# Altium integrated library SparkFun-Connectors.Library.IntLib: 425 symbols (part 12 of 12)
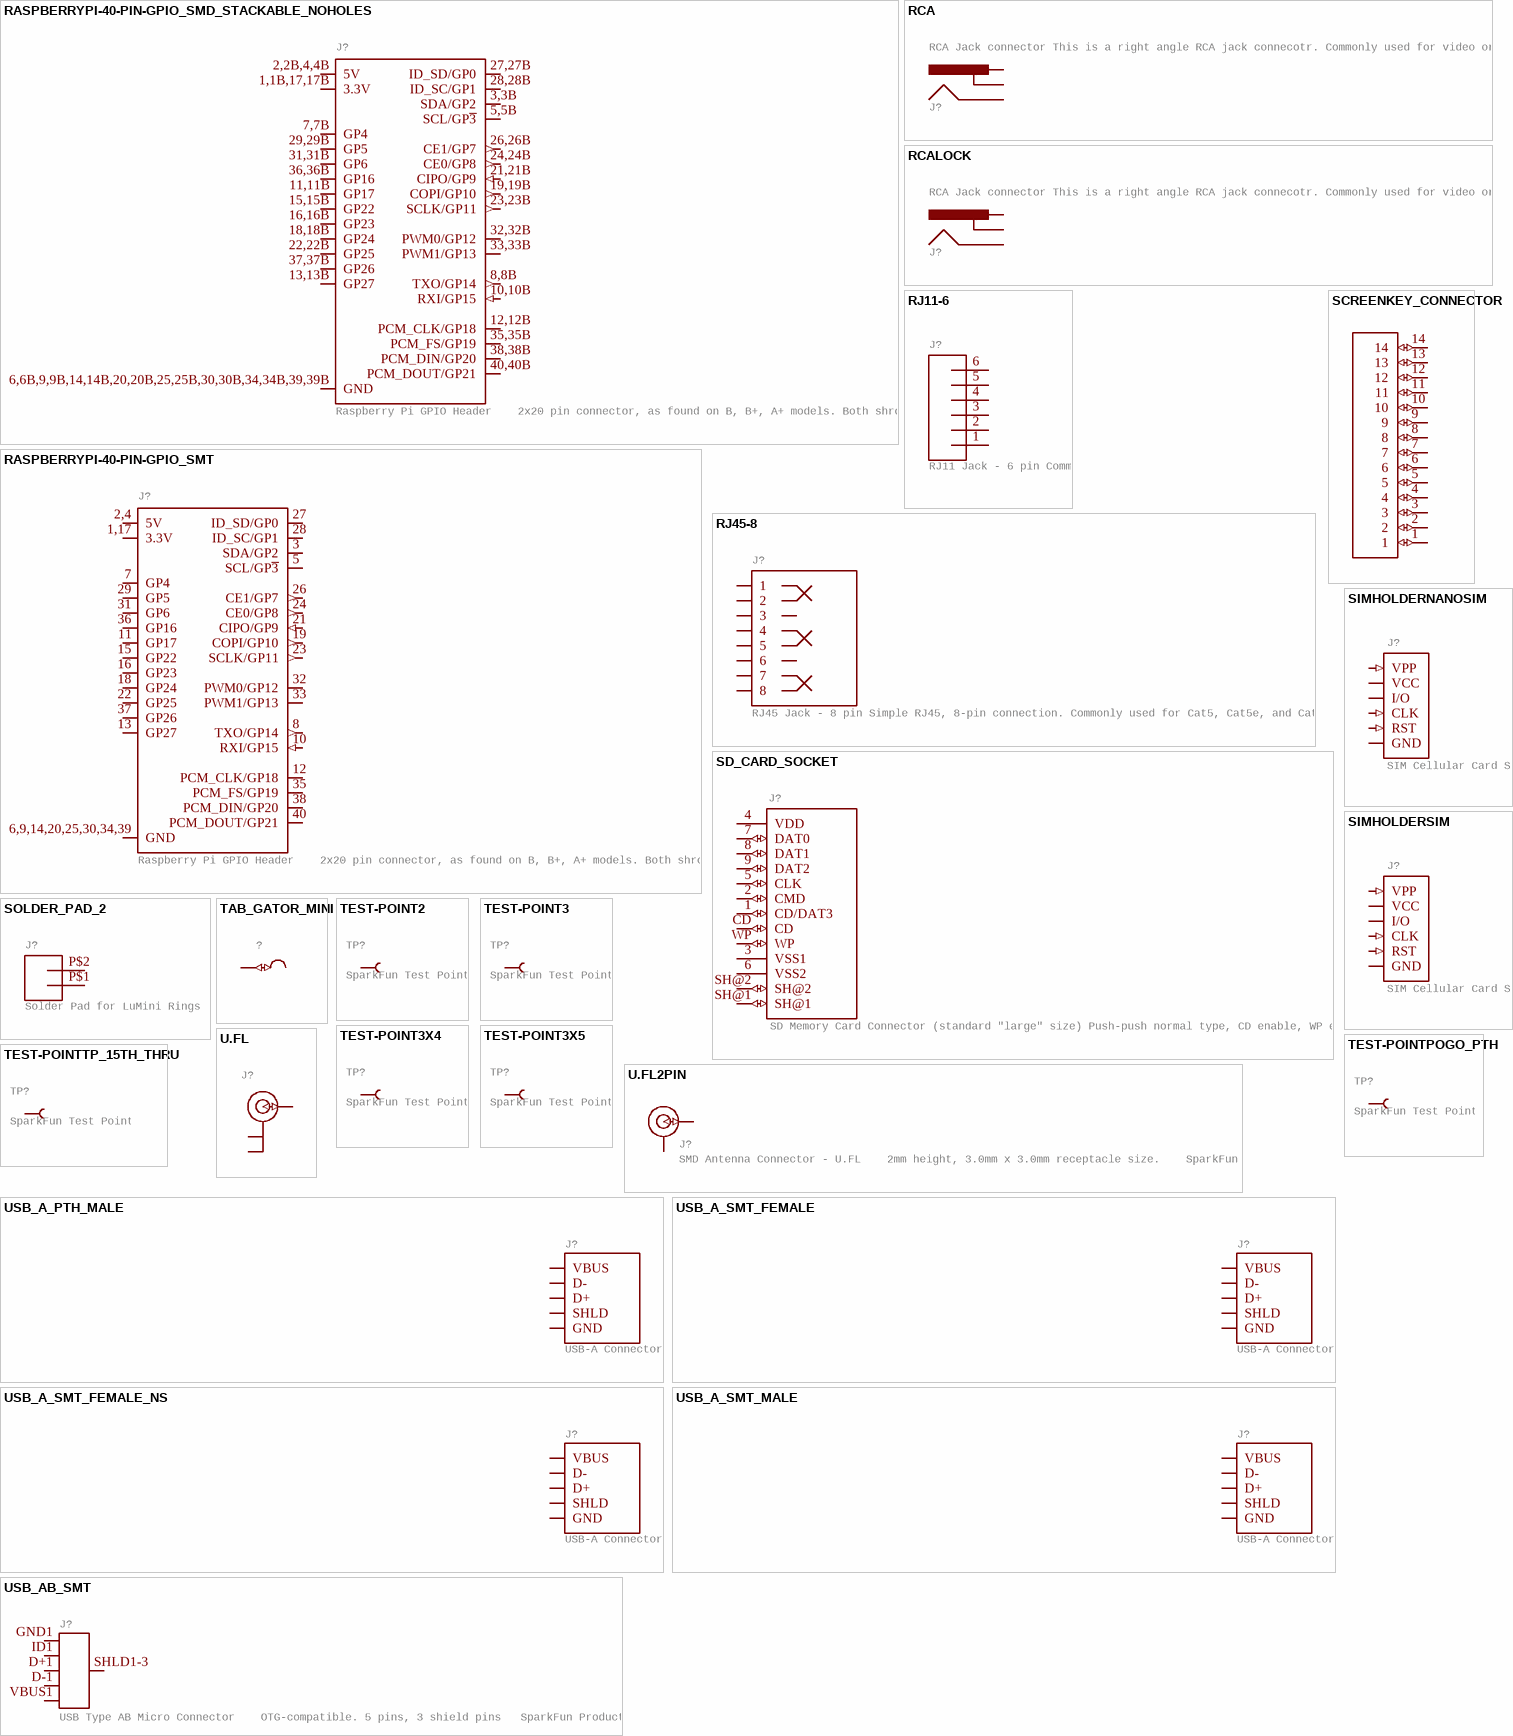
[diagram p30: symbols RASPBERRYPI-40-PIN-GPIO_SMD_STACKABLE_NOHOLES to USB_AB_SMT]

## SD_CARD_SOCKET
designator J?, comment SD Memory Card Connector (standard "large" size) Push-push normal type, CD enable, WP enable.    Here is the connector we sell at SparkFun: SD/MMC Socket (PRT-12769)  Datasheet      It is used on these SparkFun products: SparkFun SD/MMC Card Breakout (BOB-12941)  SD Sniffer (TOL-11468)
GateName_1: G$1; SymbolName_1: SDCARD-1; DeviceSetName: SD_CARD_SOCKET; PROD_ID: CONN-11976; LibraryName: SparkFun-Connectors; Package: SD; SF_ID: PRT-12769
footprint SD
pins: 1 CD/DAT3 (io), 2 CMD (io), 3 VSS1 (power), 4 VDD (power), 5 CLK (io), 6 VSS2 (power), 7 DAT0 (io), 8 DAT1 (io), 9 DAT2 (io), CD (io), SH@1 (io), SH@2 (io), WP (io)

## SIMHOLDERNANOSIM
designator J?, comment SIM Cellular Card Socket    SMT 6 pin standard connection.    SparkFun Products: SIM Socket  SparkFun Cellular Shield - MG2639  SparkFun SIM Card Socket Breakout
GateName_1: J1; SymbolName_1: SIMHOLDER; DeviceName: NANOSIM; PROD_ID: CONN-14097; LibraryName: SparkFun-Connectors; DeviceSetName: SIMHOLDER; Package: NANO_SIM_WURTH_693043020611
footprint NANO_SIM_WURTH_693043020611
pins: C1 VCC (power), C2 RST (in), C3 CLK (in), C5 GND (power), C6 VPP (in), C7 I/O (io)

## SIMHOLDERSIM
designator J?, comment SIM Cellular Card Socket    SMT 6 pin standard connection.    SparkFun Products: SIM Socket  SparkFun Cellular Shield - MG2639  SparkFun SIM Card Socket Breakout
GateName_1: J1; SymbolName_1: SIMHOLDER; PROD_ID: CONN-08536; SF_ID: PRT-00548; DeviceName: SIM; LibraryName: SparkFun-Connectors; DeviceSetName: SIMHOLDER; Package: SIMHOLDER
footprint SIMHOLDER
pins: C1 VCC (power), C2 RST (in), C3 CLK (in), C5 GND (power), C6 VPP (in), C7 I/O (io)

## SOLDER_PAD_2
designator J?, comment Solder Pad for LuMini Rings
GateName_1: G$1; SymbolName_1: CONN_02; DeviceSetName: SOLDER_PAD_2; LibraryName: SparkFun-Connectors; Package: SOLDER_PAD_2
footprint SOLDER_PAD_2
pins: P$1 1, P$2 2

## TAB_GATOR_MINI
designator ?
GateName_1: G$1; SymbolName_1: TAB_MICRO_BIT_GATOR_CLIP; DeviceSetName: TAB_GATOR_MINI; LibraryName: SparkFun-Connectors; Package: TAB_GATOR_MINI
footprint TAB_GATOR_MINI
pins: P1 P$1 (io)

## TEST-POINT2
designator TP?, comment SparkFun Test Points    Bare copper test points for troubleshooting or In-Circuit-Testing. These are used by our Production team for verifying production board runs using pogo-pins on test beds.   SparkFun Products: SparkFun LSM9DS1 Breakout  SparkFun PSOC  SparkFun Load Cell Amplifier
GateName_1: G$1; SymbolName_1: TEST-POINT; DeviceName: 2; LibraryName: SparkFun-Connectors; DeviceSetName: TEST-POINT; Package: PAD.02X.02
footprint PAD.02X.02
pins: 1 (io)

## TEST-POINT3
designator TP?, comment SparkFun Test Points    Bare copper test points for troubleshooting or In-Circuit-Testing. These are used by our Production team for verifying production board runs using pogo-pins on test beds.   SparkFun Products: SparkFun LSM9DS1 Breakout  SparkFun PSOC  SparkFun Load Cell Amplifier
GateName_1: G$1; SymbolName_1: TEST-POINT; DeviceName: 3; LibraryName: SparkFun-Connectors; DeviceSetName: TEST-POINT; Package: PAD.03X.03
footprint PAD.03X.03
pins: 1 (io)

## TEST-POINT3X4
designator TP?, comment SparkFun Test Points    Bare copper test points for troubleshooting or In-Circuit-Testing. These are used by our Production team for verifying production board runs using pogo-pins on test beds.   SparkFun Products: SparkFun LSM9DS1 Breakout  SparkFun PSOC  SparkFun Load Cell Amplifier
GateName_1: G$1; SymbolName_1: TEST-POINT; DeviceName: 3X4; LibraryName: SparkFun-Connectors; DeviceSetName: TEST-POINT; Package: PAD.03X.04
footprint PAD.03X.04
pins: 1 (io)

## TEST-POINT3X5
designator TP?, comment SparkFun Test Points    Bare copper test points for troubleshooting or In-Circuit-Testing. These are used by our Production team for verifying production board runs using pogo-pins on test beds.   SparkFun Products: SparkFun LSM9DS1 Breakout  SparkFun PSOC  SparkFun Load Cell Amplifier
GateName_1: G$1; SymbolName_1: TEST-POINT; DeviceName: 3X5; LibraryName: SparkFun-Connectors; DeviceSetName: TEST-POINT; Package: PAD.03X.05
footprint PAD.03X.05
pins: 1 (io)

## TEST-POINTPOGO_PTH
designator TP?, comment SparkFun Test Points    Bare copper test points for troubleshooting or In-Circuit-Testing. These are used by our Production team for verifying production board runs using pogo-pins on test beds.   SparkFun Products: SparkFun LSM9DS1 Breakout  SparkFun PSOC  SparkFun Load Cell Amplifier
GateName_1: G$1; SymbolName_1: TEST-POINT; DeviceName: POGO_PTH; LibraryName: SparkFun-Connectors; DeviceSetName: TEST-POINT; Package: 1X01_NO_SILK
footprint 1X01_NO_SILK
pins: 1 (io)

## TEST-POINTTP_15TH_THRU
designator TP?, comment SparkFun Test Points    Bare copper test points for troubleshooting or In-Circuit-Testing. These are used by our Production team for verifying production board runs using pogo-pins on test beds.   SparkFun Products: SparkFun LSM9DS1 Breakout  SparkFun PSOC  SparkFun Load Cell Amplifier
GateName_1: G$1; SymbolName_1: TEST-POINT; DeviceName: TP_15TH_THRU; LibraryName: SparkFun-Connectors; DeviceSetName: TEST-POINT; Package: TP_15TH
footprint TP_15TH
pins: 1 (io)

## U.FL
designator J?, comment SMD Antenna Connector - U.FL    2mm height, 3.0mm x 3.0mm receptacle size.    SparkFun Products: SparkFun WiFi Shield - ESP8266  SparkFun ESP8266 Thing  SparkFun MiniGen - Pro Mini Signal Generator Shield  (value not drawn)
GateName_1: G$1; PROD_ID: CONN-09193; SF_ID: WRL-09144; SymbolName_1: U.FL; LibraryName: SparkFun-Connectors; DeviceSetName: U.FL; Package: U.FL
footprint U.FL
pins: 1 GND@0 (io), 2 GND@1 (io), FEED SIGNAL (io)

## U.FL2PIN
designator J?, comment SMD Antenna Connector - U.FL    2mm height, 3.0mm x 3.0mm receptacle size.    SparkFun Products: SparkFun WiFi Shield - ESP8266  SparkFun ESP8266 Thing  SparkFun MiniGen - Pro Mini Signal Generator Shield
GateName_1: G$1; SymbolName_1: U.FL-1; DeviceSetName: U.FL2PIN; PROD_ID: CONN-09193; SF_ID: WRL-09144; LibraryName: SparkFun-Connectors; Package: U.FL
footprint U.FL
pins: 1,2 GND (io), FEED SIGNAL (io)

## USB_A_PTH_MALE
designator J?, comment USB-A Connector    Male and female variants, as well as PTH and SMT variants   SparkFun Products:  SparkFun XBee Explorer Dongle PTH Male  SparkFun MicroView-USB Programmer SMT Male  SparkFun USB Type A Female Breakout SMT Female
GateName_1: G$1; DeviceName: _PTH_MALE; DeviceSetName: USB_A; PROD_ID: CONN-08367; SF_ID: PRT-00437; SymbolName_1: USB; LibraryName: SparkFun-Connectors; Package: USB-A-H
footprint USB-A-H
pins: D+ (io), D- (io), GND (power), SHLD1,2 SHLD (io), VBUS (power)

## USB_A_SMT_FEMALE
designator J?, comment USB-A Connector    Male and female variants, as well as PTH and SMT variants   SparkFun Products:  SparkFun XBee Explorer Dongle PTH Male  SparkFun MicroView-USB Programmer SMT Male  SparkFun USB Type A Female Breakout SMT Female
GateName_1: G$1; DeviceName: _SMT_FEMALE; DeviceSetName: USB_A; PROD_ID: CONN-09520; SF_ID: PRT-09011; SymbolName_1: USB; LibraryName: SparkFun-Connectors; Package: USB-A-S-SILK-FEMALE
footprint USB-A-S-SILK-FEMALE
pins: D+ (io), D- (io), GND (power), SHLD1,2 SHLD (io), VBUS (power)

## USB_A_SMT_FEMALE_NS
designator J?, comment USB-A Connector    Male and female variants, as well as PTH and SMT variants   SparkFun Products:  SparkFun XBee Explorer Dongle PTH Male  SparkFun MicroView-USB Programmer SMT Male  SparkFun USB Type A Female Breakout SMT Female
GateName_1: G$1; DeviceName: _SMT_FEMALE_NS; DeviceSetName: USB_A; PROD_ID: CONN-09520; SF_ID: PRT-09011; SymbolName_1: USB; LibraryName: SparkFun-Connectors; Package: USB-A-S-NOSILK-FEMALE
footprint USB-A-S-NOSILK-FEMALE
pins: D+ (io), D- (io), GND (power), SHLD1,2 SHLD (io), VBUS (power)

## USB_A_SMT_MALE
designator J?, comment USB-A Connector    Male and female variants, as well as PTH and SMT variants   SparkFun Products:  SparkFun XBee Explorer Dongle PTH Male  SparkFun MicroView-USB Programmer SMT Male  SparkFun USB Type A Female Breakout SMT Female
GateName_1: G$1; DeviceName: _SMT_MALE; DeviceSetName: USB_A; PROD_ID: CONN-11499; SymbolName_1: USB; LibraryName: SparkFun-Connectors; Package: USB-A-SMT-MALE
footprint USB-A-SMT-MALE
pins: D+1 D+ (io), D-1 D- (io), GND1 GND (power), SHLD1,2 SHLD (io), VBUS1 VBUS (power)

## USB_AB_SMT
designator J?, comment USB Type AB Micro Connector    OTG-compatible. 5 pins, 3 shield pins   SparkFun Products:  IOIO-OTG  SparkFun SAMD21 Mini Breakout
GateName_1: G$1; SymbolName_1: USB_AB; DeviceName: _SMT; PROD_ID: CONN-11794; LibraryName: SparkFun-Connectors; DeviceSetName: USB_AB; Package: USB-AB-MICRO-SMD
footprint USB-AB-MICRO-SMD
pins: D+1 D+ (io), D-1 D- (io), GND1 GND (power), ID1 USBID (io), SHLD1-3 SHIELD (io), VBUS1 VBUS (power)

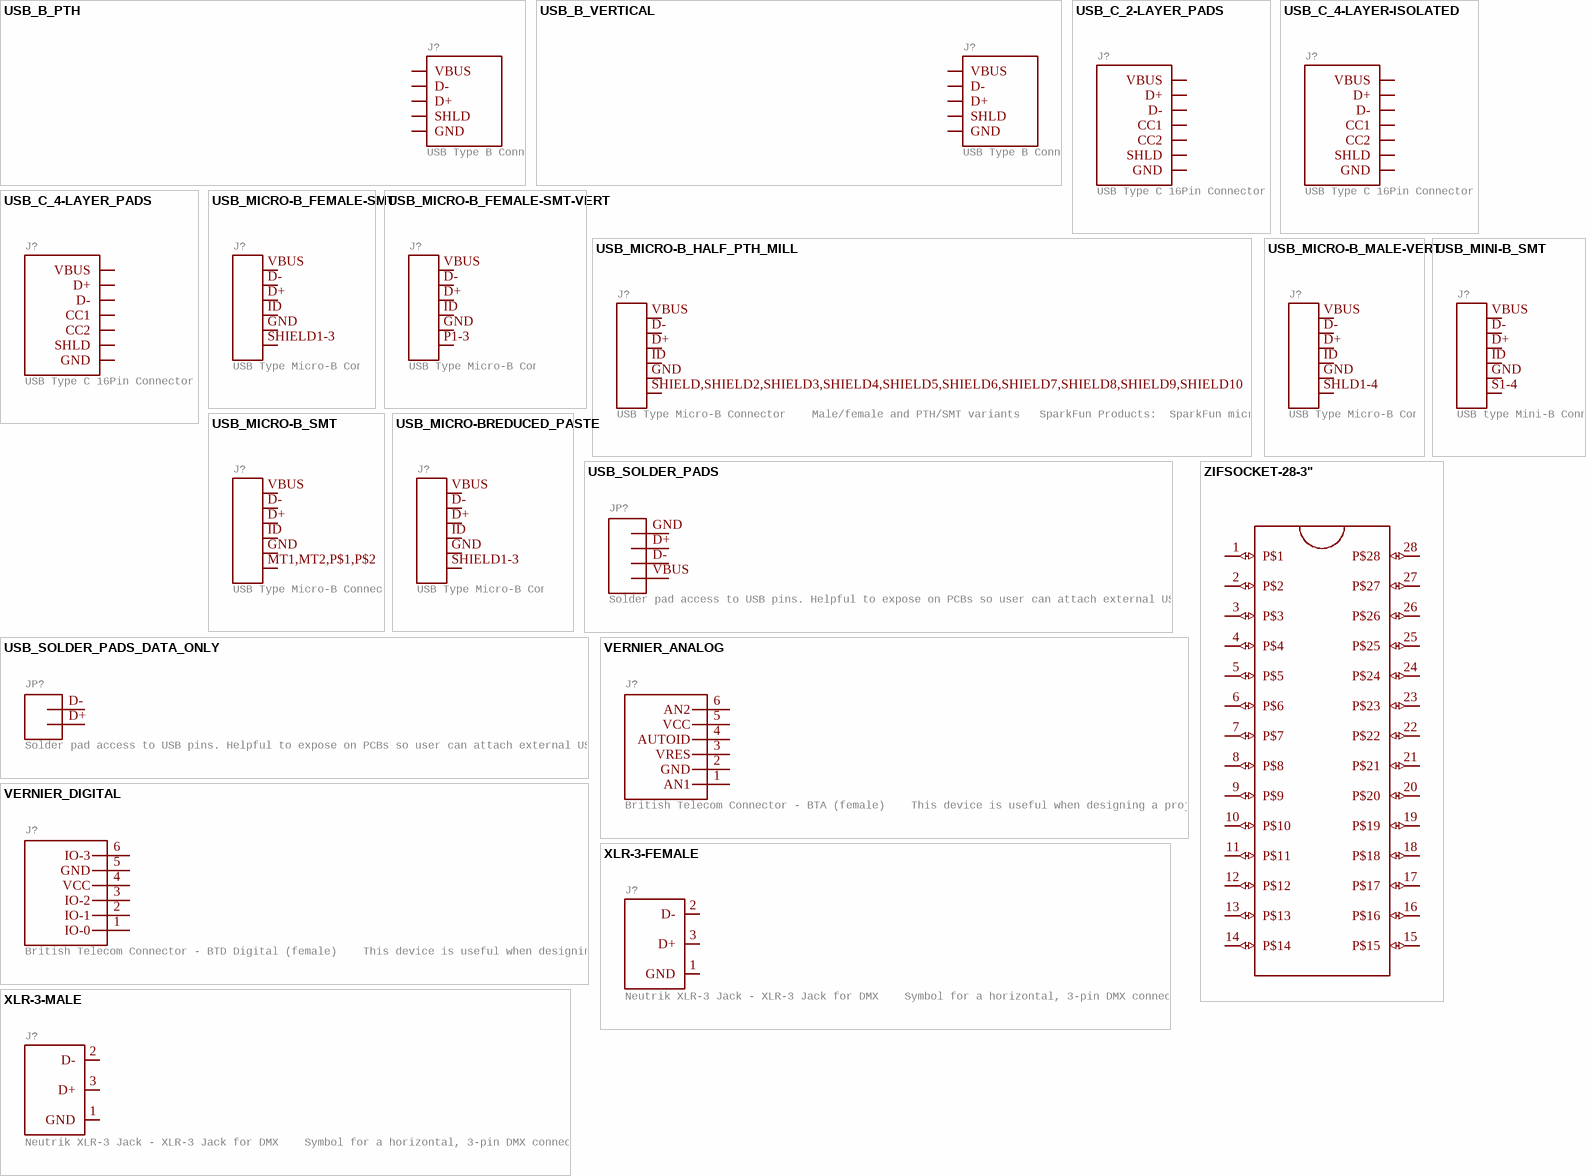
[diagram p19: symbols USB_B_PTH to ZIFSOCKET-28-3"]

## USB_B_PTH
designator J?, comment USB Type B Connector       SparkFun Products:  SparkFun Stepoko PTH
GateName_1: G$1; DeviceName: _PTH; DeviceSetName: USB_B; PROD_ID: CONN-08278; SF_ID: PRT-00139; SymbolName_1: USB; LibraryName: SparkFun-Connectors; Package: USB-B-PTH
footprint USB-B-PTH
pins: D+ (io), D- (io), GND (power), SHLD1,2 SHLD (io), VBUS (power)

## USB_B_VERTICAL
designator J?, comment USB Type B Connector       SparkFun Products:  SparkFun Stepoko PTH
GateName_1: G$1; DeviceName: _VERTICAL; DeviceSetName: USB_B; SymbolName_1: USB; LibraryName: SparkFun-Connectors; Package: USB_B_VERTICAL_PTH
footprint USB_B_VERTICAL_PTH
pins: 1 VBUS (power), 2 D- (io), 3 D+ (io), 4 GND (power), 5,6 SHLD (io)

## USB_C_2-LAYER_PADS
designator J?, comment USB Type C 16Pin Connector Super Speed pins not available on the 16-pin purely SMD connector so this part is best for USB 2.0 implementations. D1 and D2 are tied together enabling D+/- no matter which way the cable is plugged into the connector. The two channel configuration pins (CC1/2) are exposed. These are normally connected to ground via 5.1k resistors but can be reconfigured for high current/high power applications.  **4-LAYER BOARD WARNING!!** If designing 4-layer board, make sure to select the variant _4-LAYER-ISOLATED. The linked footprint (USB-C-16-4LAYER-ISOLATED) includes some very necessary cutout polygons in the inner layers (2 and 15). This prevents the PTH mounting shield legs on the USB connector from electrically connecting any other polygons on the inner layers (usually VCC and GND).
GateName_1: J1; SymbolName_1: USB-C-MINIMUM; DeviceName: _2-LAYER_PADS; DeviceSetName: USB_C; PROD_ID: CONN-14122; LibraryName: SparkFun-Connectors; Package: USB-C-16P-2LAYER-PADS
footprint USB-C-16P-2LAYER-PADS
pins: A5 CC1 (io), A6,B6 D+ (io), A7,B7 D- (io), B5 CC2 (io), GND,GND2 GND (io), SHLD1-4 SHLD (io), VBUS1,2 VBUS (io)

## USB_C_4-LAYER-ISOLATED
designator J?, comment USB Type C 16Pin Connector Super Speed pins not available on the 16-pin purely SMD connector so this part is best for USB 2.0 implementations. D1 and D2 are tied together enabling D+/- no matter which way the cable is plugged into the connector. The two channel configuration pins (CC1/2) are exposed. These are normally connected to ground via 5.1k resistors but can be reconfigured for high current/high power applications.  **4-LAYER BOARD WARNING!!** If designing 4-layer board, make sure to select the variant _4-LAYER-ISOLATED. The linked footprint (USB-C-16-4LAYER-ISOLATED) includes some very necessary cutout polygons in the inner layers (2 and 15). This prevents the PTH mounting shield legs on the USB connector from electrically connecting any other polygons on the inner layers (usually VCC and GND).
GateName_1: J1; SymbolName_1: USB-C-MINIMUM; DeviceSetName: USB_C; PROD_ID: CONN-14122; DeviceName: _4-LAYER-ISOLATED; LibraryName: SparkFun-Connectors; Package: USB-C-16P-4LAYER-ISOLATED
footprint USB-C-16P-4LAYER-ISOLATED
pins: A5 CC1 (io), A6,B6 D+ (io), A7,B7 D- (io), B5 CC2 (io), GND,GND2 GND (io), SHLD1-8 SHLD (io), VBUS1,2 VBUS (io)

## USB_C_4-LAYER_PADS
designator J?, comment USB Type C 16Pin Connector Super Speed pins not available on the 16-pin purely SMD connector so this part is best for USB 2.0 implementations. D1 and D2 are tied together enabling D+/- no matter which way the cable is plugged into the connector. The two channel configuration pins (CC1/2) are exposed. These are normally connected to ground via 5.1k resistors but can be reconfigured for high current/high power applications.  **4-LAYER BOARD WARNING!!** If designing 4-layer board, make sure to select the variant _4-LAYER-ISOLATED. The linked footprint (USB-C-16-4LAYER-ISOLATED) includes some very necessary cutout polygons in the inner layers (2 and 15). This prevents the PTH mounting shield legs on the USB connector from electrically connecting any other polygons on the inner layers (usually VCC and GND).
GateName_1: J1; SymbolName_1: USB-C-MINIMUM; DeviceName: _4-LAYER_PADS; DeviceSetName: USB_C; PROD_ID: CONN-14122; LibraryName: SparkFun-Connectors; Package: USB-C-16P_4LAYER-PADS
footprint USB-C-16P_4LAYER-PADS
pins: A5 CC1 (io), A6,B6 D+ (io), A7,B7 D- (io), B5 CC2 (io), GND,GND2 GND (io), SHLD1-4 SHLD (io), VBUS1,2 VBUS (io)

## USB_MICRO-B_FEMALE-SMT
designator J?, comment USB Type Micro-B Connector    Male/female and PTH/SMT variants   SparkFun Products:  SparkFun microB USB Breakout  SparkFun USB microB Plug Breakout  SparkFun ESP8266 Thing
GateName_1: J1; SymbolName_1: USB-5PIN; DeviceName: _FEMALE-SMT; DeviceSetName: USB_MICRO-B; PROD_ID: CONN-11752; LibraryName: SparkFun-Connectors; Package: USB-B-MICRO-SMD
footprint USB-B-MICRO-SMD
pins: D+ (io), D- (io), GND (power), ID (io), SHIELD1-3 SHIELD (io), VBUS (power)

## USB_MICRO-B_FEMALE-SMT-VERT
designator J?, comment USB Type Micro-B Connector    Male/female and PTH/SMT variants   SparkFun Products:  SparkFun microB USB Breakout  SparkFun USB microB Plug Breakout  SparkFun ESP8266 Thing
GateName_1: J1; SymbolName_1: USB-5PIN; DeviceName: _FEMALE-SMT-VERT; DeviceSetName: USB_MICRO-B; PROD_ID: CONN-13534; LibraryName: SparkFun-Connectors; Package: USB-B-MICRO-SMD_VERT
footprint USB-B-MICRO-SMD_VERT
pins: D+ (io), D- (io), GND (power), ID (io), P1-3 SHIELD (io), VBUS (power)

## USB_MICRO-B_HALF_PTH_MILL
designator J?, comment USB Type Micro-B Connector    Male/female and PTH/SMT variants   SparkFun Products:  SparkFun microB USB Breakout  SparkFun USB microB Plug Breakout  SparkFun ESP8266 Thing
GateName_1: J1; SymbolName_1: USB-5PIN; DeviceName: _HALF_PTH_MILL; DeviceSetName: USB_MICRO-B; PROD_ID: CONN-13711; LibraryName: SparkFun-Connectors; Package: USB-MICROB-PTH-MILL
footprint USB-MICROB-PTH-MILL
pins: D+ (io), D- (io), GND (power), ID (io), SHIELD,SHIELD2,SHIELD3,SHIELD4,SHIELD5,SHIELD6,SHIELD7,SHIELD8,SHIELD9,SHIELD10 SHIELD (io), VBUS (power)

## USB_MICRO-B_MALE-VERT
designator J?, comment USB Type Micro-B Connector    Male/female and PTH/SMT variants   SparkFun Products:  SparkFun microB USB Breakout  SparkFun USB microB Plug Breakout  SparkFun ESP8266 Thing
GateName_1: J1; SymbolName_1: USB-5PIN; DeviceName: _MALE-VERT; DeviceSetName: USB_MICRO-B; PROD_ID: CONN-09900; LibraryName: SparkFun-Connectors; Package: USB_MICROB_VERTICAL
footprint USB_MICROB_VERTICAL
pins: D+ (io), D- (io), GND (power), ID (io), SHLD1-4 SHIELD (io), VBUS (power)

## USB_MICRO-B_SMT
designator J?, comment USB Type Micro-B Connector    Male/female and PTH/SMT variants   SparkFun Products:  SparkFun microB USB Breakout  SparkFun USB microB Plug Breakout  SparkFun ESP8266 Thing
GateName_1: J1; SymbolName_1: USB-5PIN; DeviceName: _SMT; DeviceSetName: USB_MICRO-B; PROD_ID: CONN-09505; SF_ID: PRT-08533; LibraryName: SparkFun-Connectors; Package: USB-MICROB
footprint USB-MICROB
pins: D+ (io), D- (io), GND (power), ID (io), MT1,MT2,P$1,P$2 SHIELD (io), VBUS (power)

## USB_MICRO-BREDUCED_PASTE
designator J?, comment USB Type Micro-B Connector    Male/female and PTH/SMT variants   SparkFun Products:  SparkFun microB USB Breakout  SparkFun USB microB Plug Breakout  SparkFun ESP8266 Thing
GateName_1: J1; SymbolName_1: USB-5PIN; DeviceName: REDUCED_PASTE; DeviceSetName: USB_MICRO-B; PROD_ID: CONN-11752; LibraryName: SparkFun-Connectors; Package: USB-B-MICRO-SMD_RED_PASTE
footprint USB-B-MICRO-SMD_RED_PASTE
pins: D+ (io), D- (io), GND (power), ID (io), SHIELD1-3 SHIELD (io), VBUS (power)

## USB_MINI-B_SMT
designator J?, comment USB type Mini-B Connector    Breaks out 5th pin, and includes shield pins if needed.   SparkFun Products:    SparkFun Redboard
GateName_1: G$1; SymbolName_1: USB-5PIN; DeviceName: _SMT; DeviceSetName: USB_MINI-B; PROD_ID: CONN-08193; SF_ID: PRT-00587; LibraryName: SparkFun-Connectors; Package: USB-MINIB
footprint USB-MINIB
pins: D+ (io), D- (io), GND (power), ID (io), S1-4 SHIELD (io), VBUS (power)

## USB_SOLDER_PADS
designator JP?, comment Solder pad access to USB pins. Helpful to expose on PCBs so user can attach external USB connector if necessary.
GateName_1: JP1; SymbolName_1: CONN_04; DeviceSetName: USB_SOLDER_PADS; LibraryName: SparkFun-Connectors; Package: USB-SOLDER-PADS
footprint USB-SOLDER-PADS
pins: D+ 3, D- 2, GND 4, VBUS 1

## USB_SOLDER_PADS_DATA_ONLY
designator JP?, comment Solder pad access to USB pins. Helpful to expose on PCBs so user can attach external USB connector if necessary.
GateName_1: JP1; SymbolName_1: CONN_02; DeviceSetName: USB_SOLDER_PADS_DATA_ONLY; LibraryName: SparkFun-Connectors; Package: USB-SOLDER-PADS-DATA_ONLY
footprint USB-SOLDER-PADS-DATA_ONLY
pins: D+ 1, D- 2

## VERNIER_ANALOG
designator J?, comment British Telecom Connector - BTA (female)    This device is useful when designing a project that uses any of the analog sensors in the Vernier ecosystem (sensors and/or controllers)   SparkFun Products:  SparkFun Vernier Interface Shield (DEV-12858)  British Telecom Connector - BTA (female)
GateName_1: G$1; SymbolName_1: VERNIER_ANALOG; PROD_ID: CONN-11653; SF_ID: PRT-12753; LibraryName: SparkFun-Connectors; DeviceSetName: VERNIER_ANALOG; Package: BTA
footprint BTA
pins: 1 AN1, 2 GND, 3 VRES, 4 AUTOID, 5 VCC, 6 AN2

## VERNIER_DIGITAL
designator J?, comment British Telecom Connector - BTD Digital (female)    This device is useful when designing a project that uses any of the analog sensors in the Vernier ecosystem (sensors and/or controllers)   SparkFun Products:  SparkFun Vernier Interface Shield (DEV-12858)  British Telecom Connector - BTD (female)        More information about the Vernier ecosystem can be found here:  http://www.vernier.com/engineering/arduino/
GateName_1: G$1; SymbolName_1: VERNIER_DIGITAL; PROD_ID: CONN-11654; SF_ID: PRT-12754; LibraryName: SparkFun-Connectors; DeviceSetName: VERNIER_DIGITAL; Package: BTD
footprint BTD
pins: 1 IO-0, 2 IO-1, 3 IO-2, 4 VCC, 5 GND, 6 IO-3

## XLR-3-FEMALE
designator J?, comment Neutrik XLR-3 Jack - XLR-3 Jack for DMX    Symbol for a horizontal, 3-pin DMX connector
GateName_1: G$1; DeviceName: -FEMALE; PROD_ID: CONN-14142; SymbolName_1: XLR-3; LibraryName: SparkFun-Connectors; DeviceSetName: XLR-3; Package: XLR-3_FEMALE
footprint XLR-3_FEMALE
pins: 1 GND (io), 2 D- (io), 3 D+ (io)

## XLR-3-MALE
designator J?, comment Neutrik XLR-3 Jack - XLR-3 Jack for DMX    Symbol for a horizontal, 3-pin DMX connector
GateName_1: G$1; DeviceName: -MALE; PROD_ID: CONN-14141; SymbolName_1: XLR-3; LibraryName: SparkFun-Connectors; DeviceSetName: XLR-3; Package: XLR-3_MALE
footprint XLR-3_MALE
pins: 1 GND (io), 2 D- (io), 3 D+ (io)

## ZIFSOCKET-28-3"
designator J?, comment ZIF Socket 28-Pin 0.3"    Lever-action ZIF socket for 28-pin ICs   SparkFun Products: ZIF Socket 28-Pin  (value not drawn)
GateName_1: G$1; SymbolName_1: DIL-28-3; DeviceName: "; DeviceSetName: ZIFSOCKET-28-3; PROD_ID: CONN-10960; SF_ID: PRT-09175; LibraryName: SparkFun-Connectors; Package: DIL28-3-ZIF_SOCKET
footprint DIL28-3-ZIF_SOCKET
pins: 1 P$1 (io), 2 P$2 (io), 3 P$3 (io), 4 P$4 (io), 5 P$5 (io), 6 P$6 (io), 7 P$7 (io), 8 P$8 (io), 9 P$9 (io), 10 P$10 (io), 11 P$11 (io), 12 P$12 (io), 13 P$13 (io), 14 P$14 (io), 15 P$15 (io), 16 P$16 (io), 17 P$17 (io), 18 P$18 (io), 19 P$19 (io), 20 P$20 (io), 21 P$21 (io), 22 P$22 (io), 23 P$23 (io), 24 P$24 (io), 25 P$25 (io), 26 P$26 (io), 27 P$27 (io), 28 P$28 (io)